# Altium schematic symbol library Schlib1.SchLib: 2 symbols
Pins are listed as number, name and electrical type; pins without a type are passive.

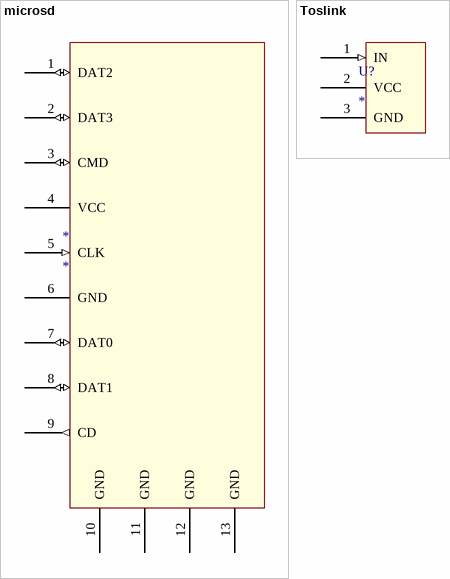
[diagram p0: symbols microsd to Toslink]

## microsd
designator *
footprint microsd
pins: 1 DAT2 (io), 2 DAT3 (io), 3 CMD (io), 4 VCC (power), 5 CLK (in), 6 GND, 7 DAT0 (io), 8 DAT1 (io), 9 CD (out), 10 GND, 11 GND, 12 GND, 13 GND

## Toslink
designator U?
Toslink
pins: 0 hidden to GND, 1 IN (in), 2 VCC (power), 3 GND (power)